# Altium footprint library 2019-07-21_05-20-36.PcbLib: 6 footprints
Each footprint in its own frame and in the unit in brackets; x right, y up, seen from the top. Pads: shape width x height; smd on the part's side, far side on the other; paste and mask are expansions set on the pad; w line width, h text height; cw(c..) or ccw(c..) is an arc to the next point about the centre after c.
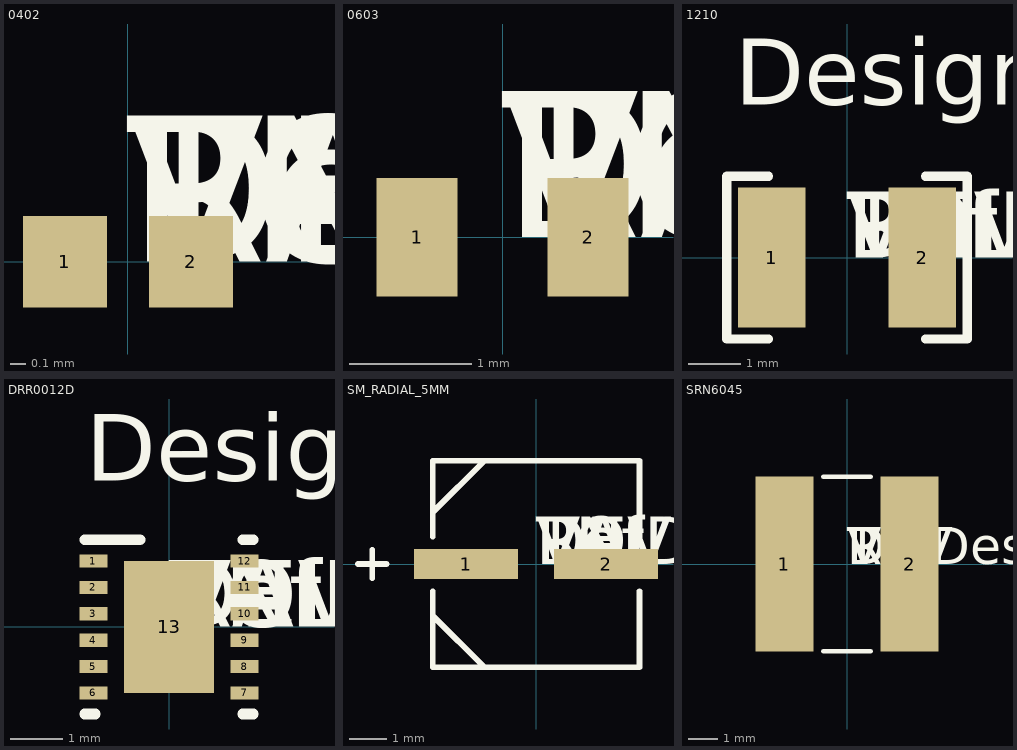
[diagram p0: the footprints below, top view; thin cyan lines are the x and y axes]

## 0402 [mil]
pads (2):
  rect 22x24 smd: 1(-16.5,0) 2(16.5,0)
Top Overlay:
  text "RefDes" at 0,0 h50
  text "DEV" at 0,0 h50
  text "PN" at 0,0 h50
  text "DEV" at 0,0 h50
  text "VAL" at 0,0 h50
  text "TOL" at 0,0 h50
3D body "0402.stp": height 22, standoff 0, extent -21.5,-12 21.5,12

## 0603 [mil]
pads (2):
  rect 26x38 smd: 1(-27.5,0) 2(27.5,0)
Top Overlay:
  text "RefDes" at 0,0 h50
  text "DEV" at 0,0 h50
  text "PN" at 0,0 h50
  text "DEV" at 0,0 h50
  text "VAL" at 0,0 h50
  text "TOL" at 0,0 h50
3D body "0603.stp": height 20, standoff 0, extent -34.5,-19 34.5,19

## 1210 [mm]
pads (2):
  rect 1.3x2.7 smd paste+0 mask+0.051: 1(-1.45,0) 2(1.45,0)
Top Overlay:
  lines w0.178: -1.511,-1.568 -2.316,-1.568 -2.316,1.568 -1.511,1.568 ; 1.511,-1.568 2.316,-1.568 2.316,1.568 1.511,1.568
  text "Designator85" at -2.159,2.938 h1.27
  text "RefDes" at 0,0 h1.27
  text "DEV" at 0,0 h1.27
  text "PN" at 0,0 h1.27
  text "DEV" at 0,0 h1.27
  text "VAL" at 0,0 h1.27
  text "TOL" at 0,0 h1.27
3D body: height 0.25, standoff 0, extent 0,0 0.254,0.254

## DRR0012D [mm]
pads (13):
  rect 0.53x0.25 smd paste+0 mask+0.051: 1(-1.435,1.25) 2(-1.435,0.75) 3(-1.435,0.25) 4(-1.435,-0.25) 5(-1.435,-0.75) 6(-1.435,-1.25) 7(1.435,-1.25) 8(1.435,-0.75) 9(1.435,-0.25) 10(1.435,0.25) 11(1.435,0.75) 12(1.435,1.25)
  rect 1.7x2.5 smd paste-1.237 mask+0.051: 13(0,0)
Top Overlay:
  lines w0.2: -1.6,-1.65 -1.4,-1.65 ; -1.6,1.65 -0.55,1.65 ; 1.4,-1.65 1.6,-1.65 ; 1.4,1.65 1.6,1.65
  text "Designator9" at -1.575,2.769 h1.27
  text "RefDes" at 0,0 h1.27
  text "DEV" at 0,0 h1.27
  text "PN" at 0,0 h1.27
  text "DEV" at 0,0 h1.27
  text "VAL" at 0,0 h1.27
  text "TOL" at 0,0 h1.27
Top Paste:
  region: -0.774,0.14 -0.775,0.15 -0.775,1.151 -0.774,1.16 -0.771,1.169 -0.767,1.178 -0.761,1.186 -0.753,1.192 -0.744,1.196 -0.735,1.199 -0.726,1.2 0.726,1.2 0.735,1.199 0.744,1.196 0.753,1.192 0.761,1.186 0.767,1.178 0.771,1.169 0.774,1.16 0.775,1.151 0.775,0.15 0.774,0.14 0.771,0.131 0.767,0.122 0.761,0.114 0.753,0.108 0.744,0.104 0.735,0.101 0.726,0.1 -0.726,0.1 -0.735,0.101 -0.744,0.104 -0.753,0.108 -0.761,0.114 -0.767,0.122 -0.771,0.131
  region: -0.774,-1.16 -0.775,-1.151 -0.775,-0.15 -0.774,-0.14 -0.771,-0.131 -0.767,-0.122 -0.761,-0.114 -0.753,-0.108 -0.744,-0.104 -0.735,-0.101 -0.726,-0.1 0.726,-0.1 0.735,-0.101 0.744,-0.104 0.753,-0.108 0.761,-0.114 0.767,-0.122 0.771,-0.131 0.774,-0.14 0.775,-0.15 0.775,-1.151 0.774,-1.16 0.771,-1.169 0.767,-1.178 0.761,-1.186 0.753,-1.192 0.744,-1.196 0.735,-1.199 0.726,-1.2 -0.726,-1.2 -0.735,-1.199 -0.744,-1.196 -0.753,-1.192 -0.761,-1.186 -0.767,-1.178 -0.771,-1.169
3D body: height 0.25, standoff 0, extent 0,0 0.254,0.254

## SM_RADIAL_5MM [mil]
pads (2):
  rect 109x31 smd: 1(-73.5,0) 2(73.5,0)
Top Overlay:
  lines w6: -187,0 -157,0 ; -172,-15 -172,15 ; -108.5,-54.25 -54.25,-108.5 ; -108.5,-28.6 -108.5,-108.5 108.5,-108.5 108.5,-28.6 ; -108.5,28.6 -108.5,108.5 108.5,108.5 108.5,28.6 ; -108.5,54.25 -54.25,108.5
  text "RefDes" at 0,0 h50
  text "DEV" at 0,0 h50
  text "PN" at 0,0 h50
  text "DEV" at 0,0 h50
  text "VAL" at 0,0 h50
  text "TOL" at 0,0 h50
3D body "SM_RADIAL_5MM.stp": height 238, standoff 0, extent -122,-108.5 122,108.5

## SRN6045 [mm]
pads (2):
  rect 2x6 smd: 1(-2.15,0) 2(2.15,0)
Top Overlay:
  lines w0.152: -0.817,-3 0.817,-3 ; -0.817,3 0.817,3
  text "RefDes" at 0,0 h1.27
  text "DEV" at 0,0 h1.27
  text "PN" at 0,0 h1.27
  text "DEV" at 0,0 h1.27
  text "VAL" at 0,0 h1.27
  text "TOL" at 0,0 h1.27
3D body: height 0.25, standoff 0, extent 0,0 0.254,0.254